# EAGLE library part CRODUINO_BASIC3 (library e-radionica_E-R MADE)
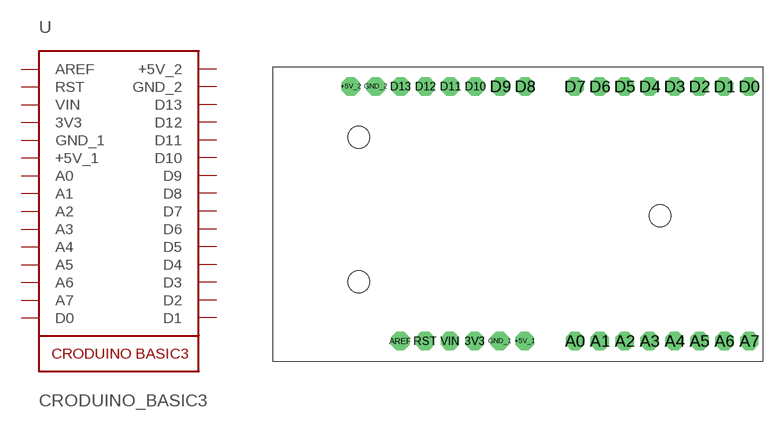
[diagram p13: symbol with the pads of CRODUINO_BASIC3; footprint CRODUINO_BASIC3]

Designator prefix -

## CRODUINO_BASIC3  [CRODUINO_BASIC3]
3V3  3V3  sup
+5V_1  +5V_1  sup
+5V_2  +5V_2  sup
A0  A0
A1  A1
A2  A2
A3  A3
A4  A4
A5  A5
A6  A6
A7  A7
AREF  AREF
D0  D0
D1  D1
D2  D2
D3  D3
D4  D4
D5  D5
D6  D6
D7  D7
D8  D8
D9  D9
D10  D10
D11  D11
D12  D12
D13  D13
GND_1  GND_1  sup
GND_2  GND_2  sup
RST  RST
VIN  VIN  sup

## Footprint CRODUINO_BASIC3 (pad centres in mm)
drill 1.016 pad 1.88 octagon: 3V3 20.632,2.032; +5V_1 25.712,2.032; +5V_2 7.98,27.986; A0 30.84,2.032; A1 33.38,2.032; A2 35.92,2.032; A3 38.46,2.032; A4 41,2.032; A5 43.54,2.032; A6 46.08,2.032; A7 48.62,2.032; AREF 13.012,2.032; D0 48.604,27.968; D1 46.064,27.968; D2 43.524,27.968; D3 40.984,27.968; D4 38.444,27.968; D5 35.904,27.968; D6 33.364,27.968; D7 30.824,27.968; D8 25.76,27.986; D9 23.22,27.986; D10 20.68,27.986; D11 18.14,27.986; D12 15.6,27.986; D13 13.06,27.986; GND_1 23.172,2.032; GND_2 10.52,27.986; RST 15.552,2.032; VIN 18.092,2.032